# EAGLE library part 10PIN_CORTEX_DEBUG (library CPSS_CONNECTOR)
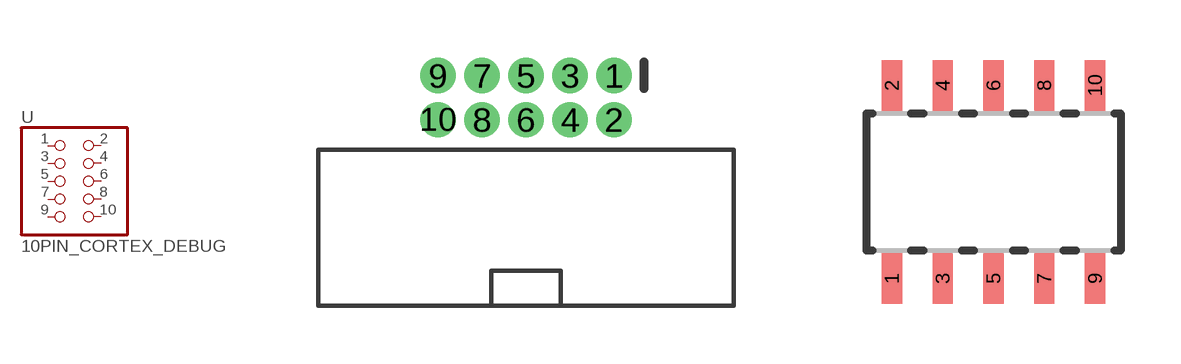
[diagram p5: symbol with the pads of 2X5-PTH-1.27MM; footprints 2X5-PTH-1.27MM, SAMTECH_FTSH-105-01]

Designator prefix -

## 10PIN_CORTEX_DEBUGTHRU_HOLE  [2X5-PTH-1.27MM]
1  1  pas
2  2  pas
3  3  pas
4  4  pas
5  5  pas
6  6  pas
7  7  pas
8  8  pas
9  9  pas
10  10  pas

## 10PIN_CORTEX_DEBUGSMD  [SAMTECH_FTSH-105-01]
Pads as for 2X5-PTH-1.27MM

## Footprint 2X5-PTH-1.27MM (pad centres in mm)
Plated Through Hole - 2x5 ARM Cortex Debug Connector (10-pin) tDoc (51) layer border represents maximum dimensions of plastic housing. Specifications: Pin count:10 Pin pitch:1.27mm Datasheet referenced for footprint <http://portal.fciconnect.com/Comergent//fci/drawing/20021111.pdf> Example device(s): CONN_05x2
drill 0.508 pad 1: 1 2.54,0.635; 2 2.54,-0.635; 3 1.27,0.635; 4 1.27,-0.635; 5 0,0.635; 6 0,-0.635; 7 -1.27,0.635; 8 -1.27,-0.635; 9 -2.54,0.635; 10 -2.54,-0.635

## Footprint SAMTECH_FTSH-105-01 (pad centres in mm)
ARM Cortex Debug Connector (10-pin) Specifications: Pin count:10 Pin pitch:0.05" Datasheet referenced for footprint <https://www.samtec.com/ftppub/cpdf/FTSH-1XX-XX-XXX-DV-XXX-MKT.pdf> Example device(s): CORTEX_DEBUG
smd 0.508 x 1.27: 1 -2.54,-2.413; 2 -2.54,2.413; 3 -1.27,-2.413; 4 -1.27,2.413; 5 0,-2.413; 6 0,2.413; 7 1.27,-2.413; 8 1.27,2.413; 9 2.54,-2.413; 10 2.54,2.413